# Altium schematic symbol library REF35.Schlib: 1 symbol
Pins are listed as number, name and electrical type; pins without a type are passive.

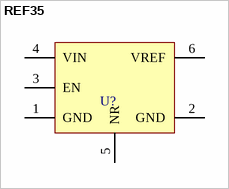
[diagram p0: symbol REF35]

## REF35
designator U?
Ultra Low-Power, High-Precision Voltage Reference
pins: 1 GND, 2 GND, 3 EN, 4 VIN, 5 NR, 6 VREF